# EAGLE library part BT_BC4 (library bluetooth)
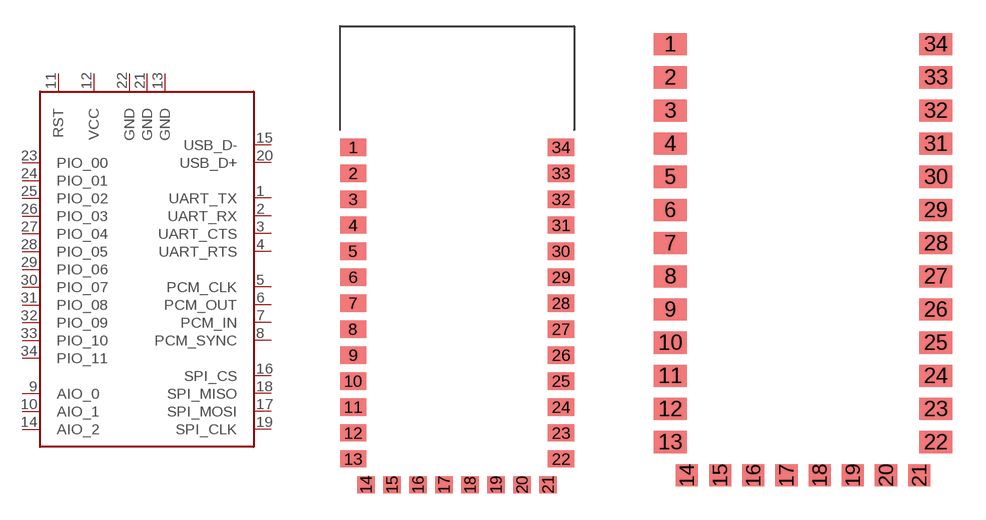
[diagram p0: symbol with the pads of BC4; footprints BC4, BC4_NO_OUTLIE]

Designator prefix -

## BT_BC4  [BC4]
1  UART_TX
2  UART_RX
3  UART_CTS
4  UART_RTS
5  PCM_CLK
6  PCM_OUT
7  PCM_IN
8  PCM_SYNC
9  AIO_0
10  AIO_1
11  RST
12  VCC
13  GND
14  AIO_2
15  USB_D-
16  SPI_CS
17  SPI_MOSI
18  SPI_MISO
19  SPI_CLK
20  USB_D+
21  GND
22  GND
23  PIO_00
24  PIO_01
25  PIO_02
26  PIO_03
27  PIO_04
28  PIO_05
29  PIO_06
30  PIO_07
31  PIO_08
32  PIO_09
33  PIO_10
34  PIO_11

## BT_BC4BC4_NO_OUTLINE  [BC4_NO_OUTLIE]
Pads as for BC4

## Footprint BC4 (pad centres in mm)
smd 1.5 x 1: 1 -5.75,9.5; 2 -5.75,8; 3 -5.75,6.5; 4 -5.75,5; 5 -5.75,3.5; 6 -5.75,2; 7 -5.75,0.5; 8 -5.75,-1; 9 -5.75,-2.5; 10 -5.75,-4; 11 -5.75,-5.5; 12 -5.75,-7; 13 -5.75,-8.5; 22 6.25,-8.5; 23 6.25,-7; 24 6.25,-5.5; 25 6.25,-4; 26 6.25,-2.5; 27 6.25,-1; 28 6.25,0.5; 29 6.25,2; 30 6.25,3.5; 31 6.25,5; 32 6.25,6.5; 33 6.25,8; 34 6.25,9.5
smd 1 x 1: 14 -5,-10; 15 -3.5,-10; 16 -2,-10; 17 -0.5,-10; 18 1,-10; 19 2.5,-10; 20 4,-10; 21 5.5,-10

## Footprint BC4_NO_OUTLIE (pad centres in mm)
smd 1.5 x 1: 1 -5.75,9.5; 2 -5.75,8; 3 -5.75,6.5; 4 -5.75,5; 5 -5.75,3.5; 6 -5.75,2; 7 -5.75,0.5; 8 -5.75,-1; 9 -5.75,-2.5; 10 -5.75,-4; 11 -5.75,-5.5; 12 -5.75,-7; 13 -5.75,-8.5; 22 6.25,-8.5; 23 6.25,-7; 24 6.25,-5.5; 25 6.25,-4; 26 6.25,-2.5; 27 6.25,-1; 28 6.25,0.5; 29 6.25,2; 30 6.25,3.5; 31 6.25,5; 32 6.25,6.5; 33 6.25,8; 34 6.25,9.5
smd 1 x 1: 14 -5,-10; 15 -3.5,-10; 16 -2,-10; 17 -0.5,-10; 18 1,-10; 19 2.5,-10; 20 4,-10; 21 5.5,-10